# EAGLE library part LM8330 (library Abhinav)
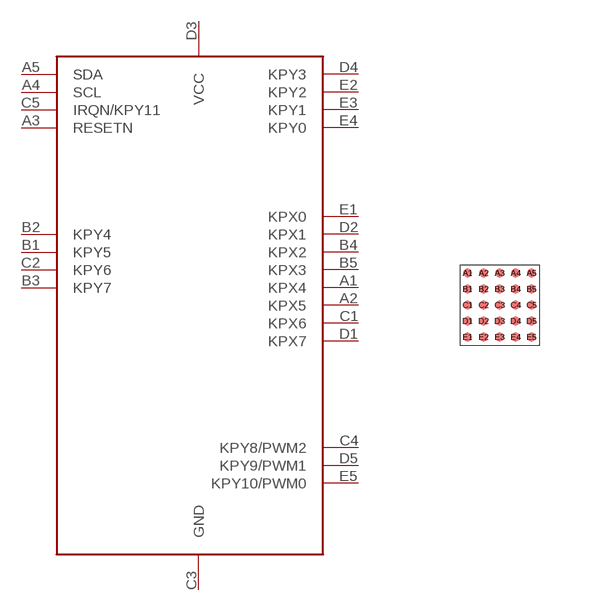
[diagram p0: symbol with the pads of DSBGA2.0MMX2.0MM; footprint DSBGA2.0MMX2.0MM]

Designator prefix -

## LM8330  [DSBGA2.0MMX2.0MM]
A1  KPX4
A2  KPX5
A3  RESETN
A4  SCL
A5  SDA
B1  KPY5
B2  KPY4
B3  KPY7
B4  KPX2
B5  KPX3
C1  KPX6
C2  KPY6
C3  GND
C4  KPY8/PWM2
C5  IRQN/KPY11
D1  KPX7
D2  KPX1
D3  VCC
D4  KPY3
D5  KPY9/PWM1
E1  KPX0
E2  KPY2
E3  KPY1
E4  KPY0
E5  KPY10/PWM0

## Footprint DSBGA2.0MMX2.0MM (pad centres in mm)
smd 0.225 x 0.225: A1 0.2,1.8; A2 0.6,1.8; A3 1,1.8; A4 1.4,1.8; A5 1.8,1.8; B1 0.2,1.4; B2 0.6,1.4; B3 1,1.4; B4 1.4,1.4; B5 1.8,1.4; C1 0.2,1; C2 0.6,1; C3 1,1; C4 1.4,1; C5 1.8,1; D1 0.2,0.6; D2 0.6,0.6; D3 1,0.6; D4 1.4,0.6; D5 1.8,0.6; E1 0.2,0.2; E2 0.6,0.2; E3 1,0.2; E4 1.4,0.2; E5 1.8,0.2